# Altium footprint library PCB - MISC - LEM_CKSR.PCBLIB: 1 footprints
Each footprint in its own frame and in the unit in brackets; x right, y up, seen from the top. Pads: shape width x height; smd on the part's side, far side on the other; paste and mask are expansions set on the pad; w line width, h text height; cw(c..) or ccw(c..) is an arc to the next point about the centre after c.
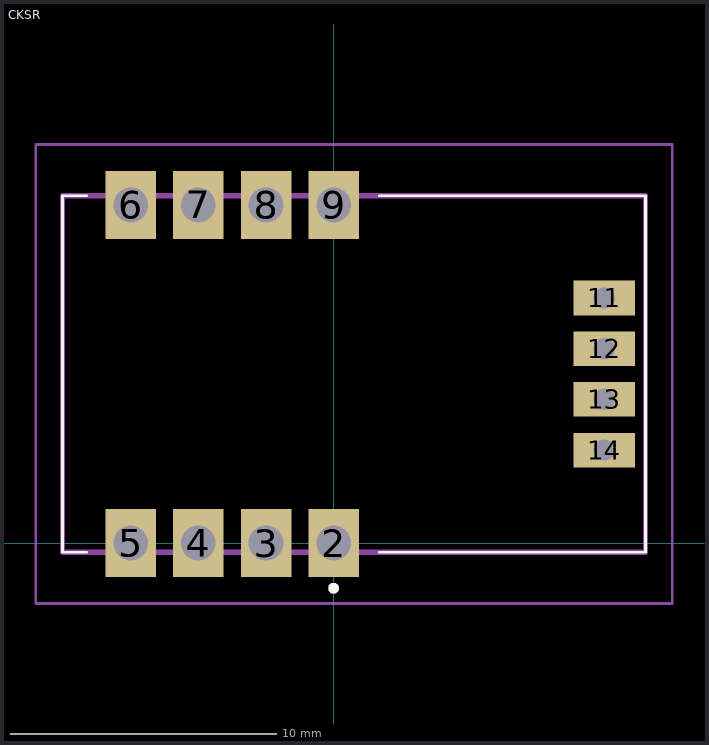
[diagram p0: the footprint, top view; thin cyan lines are the x and y axes]

## CKSR [mm]
pads (12):
  rect 1.9x2.54 hole 1.3: 2(0,0) 3(-2.54,0) 4(-5.08,0) 5(-7.62,0) 6(-7.62,12.7) 7(-5.08,12.7) 8(-2.54,12.7) 9(0,12.7)
  rect 2.3x1.3 hole 0.8: 11(10.17,9.207) 12(10.17,7.303) 13(10.17,5.397) 14(10.17,3.492)
Top Overlay:
  lines w0.1: -9.28,-0.35 -10.19,-0.35 -10.19,13.05 -9.28,13.05 ; 1.72,-0.35 11.72,-0.35 11.72,13.05 1.72,13.05
  lines w0.2: 0,-1.8 ccw(c0,-1.7) 0,-1.6 ccw(c0,-1.7) 0,-1.8
Top Assembly:
  lines w0.2: -10.19,-0.35 11.72,-0.35 11.72,13.05 -10.19,13.05 -10.19,-0.35 ; 0,-1.8 cw(c0,-1.7) 0,-1.6 cw(c0,-1.7) 0,-1.8
Top Courtyard:
  lines w0.1: -11.19,-2.27 12.72,-2.27 12.72,14.97 -11.19,14.97 -11.19,-2.27
Top Designator:
  text ".Designator" at -11.557,17.526 h1
Top Value (Mech13):
  text ".Comment" at -11.557,16.129 h1
3D body "CKSR 6-15-25-50-NP_Blackbox.stp": height 16.9, standoff -3.1, extent -10.238,-0.509 11.672,13.258